# EAGLE library part PIC32MX450F128H (library PIC32MX450F128H)
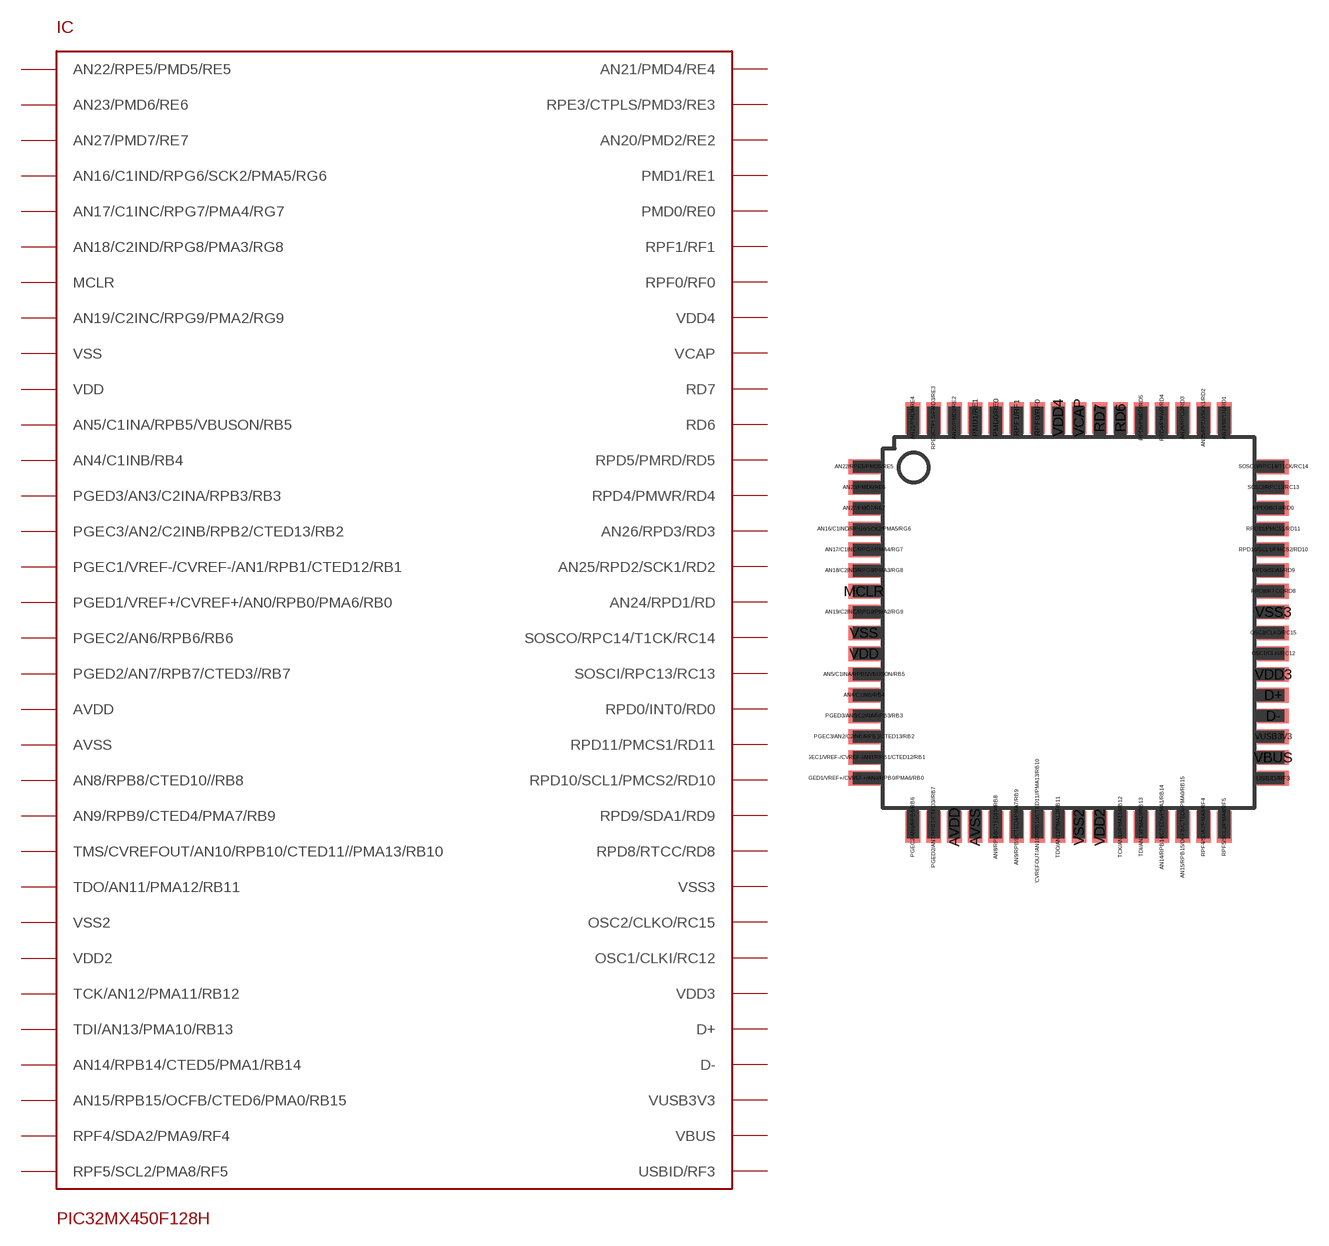
[diagram p0: symbol with the pads of TQFP64; footprint TQFP64]

Designator prefix IC

## PIC32MX450F128H  [TQFP64]
AN4/C1INB/RB4  AN4/C1INB/RB4
AN5/C1INA/RPB5/VBUSON/RB5  AN5/C1INA/RPB5/VBUSON/RB5
AN8/RPB8/CTED10//RB8  AN8/RPB8/CTED10//RB8
AN9/RPB9/CTED4/PMA7/RB9  AN9/RPB9/CTED4/PMA7/RB9
AN14/RPB14/CTED5/PMA1/RB14  AN14/RPB14/CTED5/PMA1/RB14
AN15/RPB15/OCFB/CTED6/PMA0/RB15  AN15/RPB15/OCFB/CTED6/PMA0/RB15
AN16/C1IND/RPG6/SCK2/PMA5/RG6  AN16/C1IND/RPG6/SCK2/PMA5/RG6
AN17/C1INC/RPG7/PMA4/RG7  AN17/C1INC/RPG7/PMA4/RG7
AN18/C2IND/RPG8/PMA3/RG8  AN18/C2IND/RPG8/PMA3/RG8
AN19/C2INC/RPG9/PMA2/RG9  AN19/C2INC/RPG9/PMA2/RG9
AN20/PMD2/RE2  AN20/PMD2/RE2
AN21/PMD4/RE4  AN21/PMD4/RE4
AN22/RPE5/PMD5/RE5  AN22/RPE5/PMD5/RE5
AN23/PMD6/RE6  AN23/PMD6/RE6
AN24/RPD1/RD1  AN24/RPD1/RD
AN25/RPD2/SCK1/RD2  AN25/RPD2/SCK1/RD2
AN26/RPD3/RD3  AN26/RPD3/RD3
AN27/PMD7/RE7  AN27/PMD7/RE7
AVDD  AVDD
AVSS  AVSS
D+  D+
D-  D-
MCLR  MCLR
OSC1/CLKI/RC12  OSC1/CLKI/RC12
OSC2/CLKO/RC15  OSC2/CLKO/RC15
PGEC1/VREF-/CVREF-/AN1/RPB1/CTED12/RB1  PGEC1/VREF-/CVREF-/AN1/RPB1/CTED12/RB1
PGEC2/AN6/RPB6/RB6  PGEC2/AN6/RPB6/RB6
PGEC3/AN2/C2INB/RPB2/CTED13/RB2  PGEC3/AN2/C2INB/RPB2/CTED13/RB2
PGED1/VREF+/CVREF+/AN0/RPB0/PMA6/RB0  PGED1/VREF+/CVREF+/AN0/RPB0/PMA6/RB0
PGED2/AN7/RPB7/CTED3//RB7  PGED2/AN7/RPB7/CTED3//RB7
PGED3/AN3/C2INA/RPB3/RB3  PGED3/AN3/C2INA/RPB3/RB3
PMD0/RE0  PMD0/RE0
PMD1/RE1  PMD1/RE1
RD6  RD6
RD7  RD7
RPD0/INT0/RD0  RPD0/INT0/RD0
RPD4/PMWR/RD4  RPD4/PMWR/RD4
RPD5/PMRD/RD5  RPD5/PMRD/RD5
RPD8/RTCC/RD8  RPD8/RTCC/RD8
RPD9/SDA1/RD9  RPD9/SDA1/RD9
RPD10/SCL1/PMCS2/RD10  RPD10/SCL1/PMCS2/RD10
RPD11/PMCS1/RD11  RPD11/PMCS1/RD11
RPE3/CTPLS/PMD3/RE3  RPE3/CTPLS/PMD3/RE3
RPF0/RF0  RPF0/RF0
RPF1/RF1  RPF1/RF1
RPF4/SDA2/PMA9/RF4  RPF4/SDA2/PMA9/RF4
RPF5/SCL2/PMA8/RF5  RPF5/SCL2/PMA8/RF5
SOSCI/RPC13/RC13  SOSCI/RPC13/RC13
SOSCO/RPC14/T1CK/RC14  SOSCO/RPC14/T1CK/RC14
TCK/AN12/PMA11/RB12  TCK/AN12/PMA11/RB12
TDI/AN13/PMA10/RB13  TDI/AN13/PMA10/RB13
TDO/AN11/PMA12/RB11  TDO/AN11/PMA12/RB11
TMS/CVREFOUT/AN10/RPB10/CTED11//PMA13/RB10  TMS/CVREFOUT/AN10/RPB10/CTED11//PMA13/RB10
USBID/RF3  USBID/RF3
VBUS  VBUS
VCAP  VCAP
VDD  VDD
VDD2  VDD2
VDD3  VDD3
VDD4  VDD4
VSS  VSS
VSS2  VSS2
VSS3  VSS3
VUSB3V3  VUSB3V3

## Footprint TQFP64 (pad centres in mm)
Thin Quad Flat Pack
smd 1.194 x 0.559: AN4/C1INB/RB4 -7.76,-2.756; AN5/C1INA/RPB5/VBUSON/RB5 -7.76,-1.968; AN16/C1IND/RPG6/SCK2/PMA5/RG6 -7.76,3.543; AN17/C1INC/RPG7/PMA4/RG7 -7.76,2.756; AN18/C2IND/RPG8/PMA3/RG8 -7.76,1.968; AN19/C2INC/RPG9/PMA2/RG9 -7.76,0.394; AN22/RPE5/PMD5/RE5 -7.76,5.905; AN23/PMD6/RE6 -7.76,5.118; AN27/PMD7/RE7 -7.76,4.331; D+ 7.76,-2.756; D- 7.76,-3.543; MCLR -7.76,1.181; OSC1/CLKI/RC12 7.76,-1.181; OSC2/CLKO/RC15 7.76,-0.394; PGEC1/VREF-/CVREF-/AN1/RPB1/CTED12/RB1 -7.76,-5.118; PGEC3/AN2/C2INB/RPB2/CTED13/RB2 -7.76,-4.331; PGED1/VREF+/CVREF+/AN0/RPB0/PMA6/RB0 -7.76,-5.905; PGED3/AN3/C2INA/RPB3/RB3 -7.76,-3.543; RPD0/INT0/RD0 7.76,4.331; RPD8/RTCC/RD8 7.76,1.181; RPD9/SDA1/RD9 7.76,1.968; RPD10/SCL1/PMCS2/RD10 7.76,2.756; RPD11/PMCS1/RD11 7.76,3.543; SOSCI/RPC13/RC13 7.76,5.118; SOSCO/RPC14/T1CK/RC14 7.76,5.905; USBID/RF3 7.76,-5.905; VBUS 7.76,-5.118; VDD -7.76,-1.181; VDD3 7.76,-1.968; VSS -7.76,-0.394; VSS3 7.76,0.394; VUSB3V3 7.76,-4.331
smd 0.559 x 1.194: AN8/RPB8/CTED10//RB8 -2.756,-7.76; AN9/RPB9/CTED4/PMA7/RB9 -1.968,-7.76; AN14/RPB14/CTED5/PMA1/RB14 3.543,-7.76; AN15/RPB15/OCFB/CTED6/PMA0/RB15 4.331,-7.76; AN20/PMD2/RE2 -4.331,7.76; AN21/PMD4/RE4 -5.905,7.76; AN24/RPD1/RD1 5.905,7.76; AN25/RPD2/SCK1/RD2 5.118,7.76; AN26/RPD3/RD3 4.331,7.76; AVDD -4.331,-7.76; AVSS -3.543,-7.76; PGEC2/AN6/RPB6/RB6 -5.905,-7.76; PGED2/AN7/RPB7/CTED3//RB7 -5.118,-7.76; PMD0/RE0 -2.756,7.76; PMD1/RE1 -3.543,7.76; RD6 1.968,7.76; RD7 1.181,7.76; RPD4/PMWR/RD4 3.543,7.76; RPD5/PMRD/RD5 2.756,7.76; RPE3/CTPLS/PMD3/RE3 -5.118,7.76; RPF0/RF0 -1.181,7.76; RPF1/RF1 -1.968,7.76; RPF4/SDA2/PMA9/RF4 5.118,-7.76; RPF5/SCL2/PMA8/RF5 5.905,-7.76; TCK/AN12/PMA11/RB12 1.968,-7.76; TDI/AN13/PMA10/RB13 2.756,-7.76; TDO/AN11/PMA12/RB11 -0.394,-7.76; TMS/CVREFOUT/AN10/RPB10/CTED11//PMA13/RB10 -1.181,-7.76; VCAP 0.394,7.76; VDD2 1.181,-7.76; VDD4 -0.394,7.76; VSS2 0.394,-7.76